# Altium footprint library Speaker Library.PcbLib: 45 footprints (part 2 of 3)
Each footprint in its own frame and in the unit in brackets; x right, y up, seen from the top. Pads: shape width x height; smd on the part's side, far side on the other; paste and mask are expansions set on the pad; w line width, h text height; cw(c..) or ccw(c..) is an arc to the next point about the centre after c.
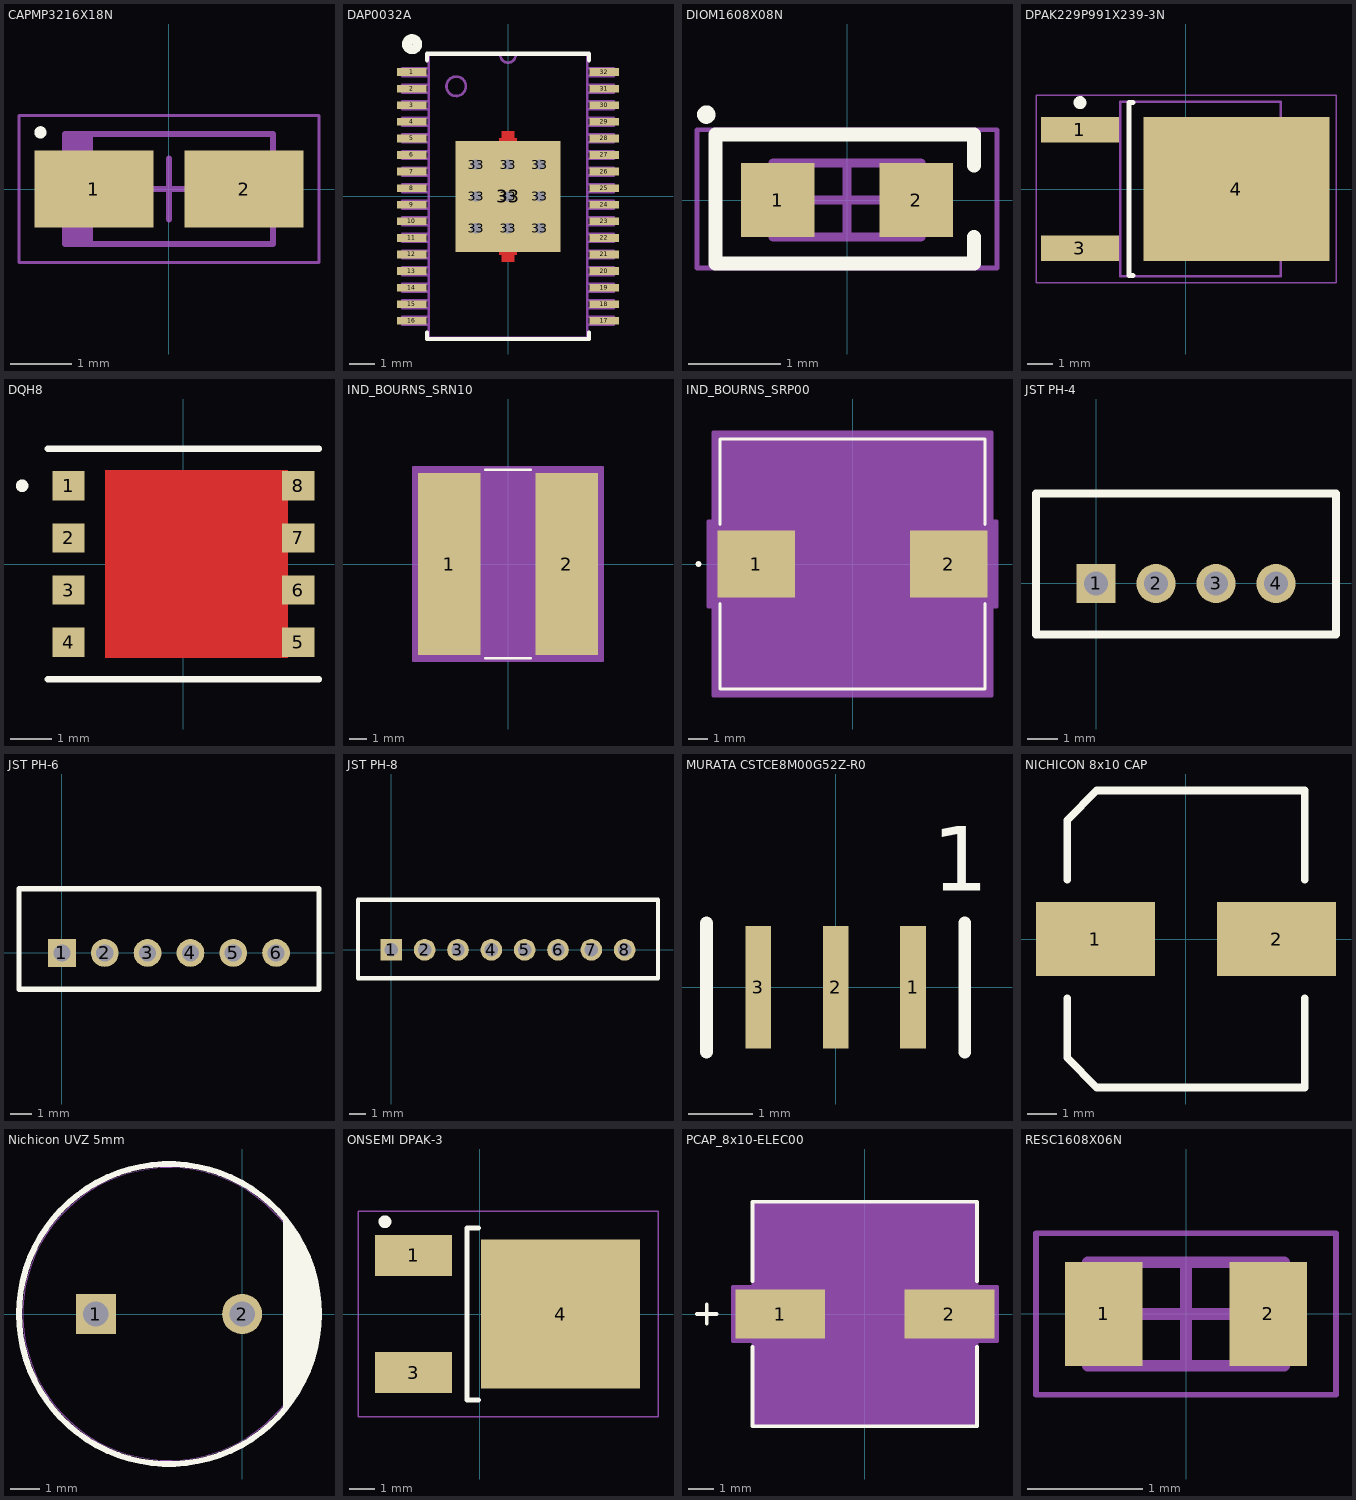
[diagram p1: the footprints below, top view; thin cyan lines are the x and y axes]

## CAPMP3216X18N [mm] "Molded Capacitor, 2-Leads, Body 3.20x1.60mm, IPC Medium Density"
height 1.8
pads (2):
  rect 1.95x1.25 smd: 1(-1.225,0) 2(1.225,0)
Top Overlay:
  circle w0.1: c-2.1,0.925 r0.05
Mechanical 13:
  rectangle: -1.7,-0.9 -1.243,0.9
  lines w0.1: -1.7,-0.9 1.7,-0.9 1.7,0.9 -1.7,0.9 -1.7,-0.9
Mechanical 15:
  lines w0.05: -2.45,-1.2 2.45,-1.2 2.45,1.2 -2.45,1.2 -2.45,-1.2
  lines w0.1: -0.5,0 0.5,0 ; 0,-0.5 0,0.5
3D body "CAPMP3216X18N.step": height 1.8, standoff 0, extent -1.92,-0.9 1.92,0.9

## DAP0032A [mil]
pads (42):
  rect 46x12 smd paste-4 mask+2: 1(-148.5,191.93) 2(-148.5,166.34) 3(-148.5,140.75) 4(-148.5,115.16) 5(-148.5,89.57) 6(-148.5,63.98) 7(-148.5,38.39) 8(-148.5,12.8) 9(-148.5,-12.8) 10(-148.5,-38.39) 11(-148.5,-63.98) 12(-148.5,-89.57) 13(-148.5,-115.16) 14(-148.5,-140.75) 15(-148.5,-166.34) 16(-148.5,-191.93) 17(148.5,-191.93) 18(148.5,-166.34) 19(148.5,-140.75) 20(148.5,-115.16) 21(148.5,-89.57) 22(148.5,-63.98) 23(148.5,-38.39) 24(148.5,-12.8) 25(148.5,12.8) 26(148.5,38.39) 27(148.5,63.98) 28(148.5,89.57) 29(148.5,115.16) 30(148.5,140.75) 31(148.5,166.34) 32(148.5,191.93)
  round 31.5 hole 15.75: 33(-49.21,-49.21) 33(-49.21,0) 33(-49.21,49.21) 33(0,-49.21) 33(0,0) 33(0,49.21) 33(49.21,-49.21) 33(49.21,0) 33(49.21,49.21)
  rect 161.81x171.65 smd paste-4 mask+2: 33(0,0)
Top Layer:
  region: 13.78,89.76 13.78,85.83 -13.78,85.83 -13.78,89.76 -9.84,89.76 -9.84,100.39 9.84,100.39 9.84,89.76
  region: 13.78,-89.76 13.78,-85.83 -13.78,-85.83 -13.78,-89.76 -9.84,-89.76 -9.84,-100.39 9.84,-100.39 9.84,-89.76
Top Overlay:
  circle w15: c-148,235 r8
  lines w6.69: -125,-210 -125,-220 125,-220 125,-210 ; -125,210 -125,220 125,220 125,210
Mechanical 1:
  circle w4: c-80,170 r15
  lines w4: -12,218.5 ccw(c0,218.5) 12,218.5 ; -163.5,-197.93 -163.5,-185.93 -122,-185.93 -122,-197.93 -163.5,-197.93 ; -163.5,-172.34 -163.5,-160.34 -122,-160.34 -122,-172.34 -163.5,-172.34 ; -163.5,-146.75 -163.5,-134.75 -122,-134.75 -122,-146.75 -163.5,-146.75 ; -163.5,-121.16 -163.5,-109.16 -122,-109.16 -122,-121.16 -163.5,-121.16 ; -163.5,-95.57 -163.5,-83.57 -122,-83.57 -122,-95.57 -163.5,-95.57 ; -163.5,-69.98 -163.5,-57.98 -122,-57.98 -122,-69.98 -163.5,-69.98 ; -163.5,-44.39 -163.5,-32.39 -122,-32.39 -122,-44.39 -163.5,-44.39 ; -163.5,-18.8 -163.5,-6.8 -122,-6.8 -122,-18.8 -163.5,-18.8 ; -163.5,6.8 -163.5,18.8 -122,18.8 -122,6.8 -163.5,6.8 ; -163.5,32.39 -163.5,44.39 -122,44.39 -122,32.39 -163.5,32.39 ; -163.5,57.98 -163.5,69.98 -122,69.98 -122,57.98 -163.5,57.98 ; -163.5,83.57 -163.5,95.57 -122,95.57 -122,83.57 -163.5,83.57 ; -163.5,109.16 -163.5,121.16 -122,121.16 -122,109.16 -163.5,109.16 ; -163.5,134.75 -163.5,146.75 -122,146.75 -122,134.75 -163.5,134.75 ; -163.5,160.34 -163.5,172.34 -122,172.34 -122,160.34 -163.5,160.34 ; -163.5,185.93 -163.5,197.93 -122,197.93 -122,185.93 -163.5,185.93 ; -122,-218.5 -122,218.5 122,218.5 122,-218.5 -122,-218.5 ; 122,-197.93 122,-185.93 163.5,-185.93 163.5,-197.93 122,-197.93 ; 122,-172.34 122,-160.34 163.5,-160.34 163.5,-172.34 122,-172.34 ; 122,-146.75 122,-134.75 163.5,-134.75 163.5,-146.75 122,-146.75 ; 122,-121.16 122,-109.16 163.5,-109.16 163.5,-121.16 122,-121.16 ; 122,-95.57 122,-83.57 163.5,-83.57 163.5,-95.57 122,-95.57 ; 122,-69.98 122,-57.98 163.5,-57.98 163.5,-69.98 122,-69.98 ; 122,-44.39 122,-32.39 163.5,-32.39 163.5,-44.39 122,-44.39 ; 122,-18.8 122,-6.8 163.5,-6.8 163.5,-18.8 122,-18.8 ; 122,6.8 122,18.8 163.5,18.8 163.5,6.8 122,6.8 ; 122,32.39 122,44.39 163.5,44.39 163.5,32.39 122,32.39 ; 122,57.98 122,69.98 163.5,69.98 163.5,57.98 122,57.98 ; 122,83.57 122,95.57 163.5,95.57 163.5,83.57 122,83.57 ; 122,109.16 122,121.16 163.5,121.16 163.5,109.16 122,109.16 ; 122,134.75 122,146.75 163.5,146.75 163.5,134.75 122,134.75 ; 122,160.34 122,172.34 163.5,172.34 163.5,160.34 122,160.34 ; 122,185.93 122,197.93 163.5,197.93 163.5,185.93 122,185.93
3D body "DAP0032A.stp": height 43.31, standoff 0, extent -159.85,-216.53 159.87,216.54

## DIOM1608X08N [mm] "Molded Diode, 2-Leads, Body 1.60x0.80mm, IPC Medium Density"
height 0.8
pads (2):
  rect 0.8x0.8 smd: 1(-0.75,0) 2(0.75,0)
Top Overlay:
  circle w0.1: c-1.525,0.925 r0.05
  lines w0.152: 1.375,-0.4 1.375,-0.686 -1.422,-0.686 -1.422,0.711 1.375,0.711 1.375,0.375
Mechanical 13:
  rectangle: 0.585,-0.4 0.8,0.4
  lines w0.1: -0.8,-0.4 0.8,-0.4 0.8,0.4 -0.8,0.4 -0.8,-0.4
Mechanical 15:
  lines w0.05: -1.625,-0.737 1.625,-0.737 1.625,0.762 -1.625,0.762 -1.625,-0.737
  lines w0.1: -0.4,0 0.4,0 ; 0,-0.4 0,0.4
3D body: height 0.3, standoff 0, extent -0.8,-0.4 0.8,0.4
3D body: height 0.8, standoff 0.3, extent -0.508,-0.305 0.508,0.305

## DPAK229P991X239-3N [mm] "D-PAK, 3-Pads, Body 6.21x6.73mm (max), IPC Medium Density"
height 2.39
pads (3):
  rect 3x1 smd: 1(-4.1,2.29) 3(-4.1,-2.29)
  rect 7.2x5.55 smd: 4(1.95,0)
Top Overlay:
  circle w0.25: c-4.1,3.34 r0.125
  lines w0.2: -2.05,-3.35 -2.2,-3.35 -2.2,3.35 -2.05,3.35
Mechanical 13:
  lines w0.1: -2.55,-3.375 -2.55,3.375 3.67,3.375 3.67,-3.375 -2.55,-3.375
Mechanical 15:
  lines w0.05: -5.8,-3.625 -5.8,3.625 5.8,3.625 5.8,-3.625 -5.8,-3.625
  lines w0.1: -0.5,0 0.5,0 ; 0,-0.5 0,0.5
3D body "DPAK229P991X239-3N.step": height 2.52, standoff 0, extent -4.6,-3.375 5.305,3.375

## DQH8 [mil]
pads (8):
  rect 31x28 smd paste-14: 1(-110,75) 2(-110,25) 3(-110,-25) 4(-110,-75) 5(110,-75) 6(110,-25) 7(110,25) 8(110,75)
Top Layer:
  region: -75,90 -75,75 -75,-75 -75,-90 100,-90 100,90
Top Overlay:
  circle w6: c-154.5,75 r3
  lines w6: -130,-110.5 130,-110.5 ; -130,110.5 130,110.5
Top Paste:
  region: 15,35 15,85 90,85 90,35
  region: 15,-25 15,25 90,25 90,-25
  region: -70,-25 -70,25 5,25 5,-25
  region: -70,35 -70,85 5,85 5,35
  region: 15,-85 15,-35 90,-35 90,-85
  region: -70,-85 -70,-35 5,-35 5,-85
  region: 125.47,88.97 94.53,88.97 94.53,61.02 125.47,61.02
  region: 125.47,38.98 94.53,38.98 94.53,11.03 125.47,11.03
  region: 125.47,-11.03 94.53,-11.03 94.53,-38.98 125.47,-38.98
  region: 125.47,-61.02 94.53,-61.02 94.53,-88.97 125.47,-88.97
  region: -94.53,-61.02 -125.47,-61.02 -125.47,-88.97 -94.53,-88.97
  region: -94.53,-11.03 -125.47,-11.03 -125.47,-38.98 -94.53,-38.98
  region: -94.53,38.98 -125.47,38.98 -125.47,11.03 -94.53,11.03
  region: -94.53,88.97 -125.47,88.97 -125.47,61.02 -94.53,61.02
Top Solder:
  region: 102,-92 102,53 102,92 -77,92 -77,-92
  region: 125.57,89.07 94.43,89.07 94.43,60.93 125.57,60.93
  region: 125.57,39.07 94.43,39.07 94.43,10.93 125.57,10.93
  region: 125.57,-10.93 94.43,-10.93 94.43,-39.07 125.57,-39.07
  region: 125.57,-60.93 94.43,-60.93 94.43,-89.07 125.57,-89.07
  region: -94.43,-60.93 -125.57,-60.93 -125.57,-89.07 -94.43,-89.07
  region: -94.43,-10.93 -125.57,-10.93 -125.57,-39.07 -94.43,-39.07
  region: -94.43,39.07 -125.57,39.07 -125.57,10.93 -94.43,10.93
  region: -94.43,89.07 -125.57,89.07 -125.57,60.93 -94.43,60.93

## IND_BOURNS_SRN10 [mil]
pads (2):
  rect 138x402 smd: 1(-130,0) 2(130,0)
Top Overlay:
  lines w6: -49.93,-208 49.93,-208 ; -49.93,208 49.93,208
Mechanical 13:
  circle w0: c-196,0 r3
Mechanical 15:
  region: -209,-211 -209,211 -209,213 209,213 209,211 209,-211 209,-213 -209,-213
  lines w6: -209,-213 -209,-211 -209,211 -209,213 209,213 209,211 209,-211 209,-213 -209,-213
3D body "IND_BOURNS_SRN1060.stp": height 236, standoff 0, extent -199,-203.01 199,203.01

## IND_BOURNS_SRP00 [mil]
pads (2):
  rect 160x138 smd: 1(-199.5,0) 2(199.5,0)
Top Overlay:
  circle w6: c-319.5,0 r3
  lines w6: -274.5,-82.1 -274.5,-259 274.5,-259 274.5,-82.1 ; -274.5,82.1 -274.5,259 274.5,259 274.5,82.1
Mechanical 13:
  circle w0: c-249.5,0 r3
Mechanical 15:
  region: -289.5,-89 -299.5,-89 -299.5,89 -289.5,89 -289.5,274 289.5,274 289.5,89 299.5,89 299.5,-89 289.5,-89 289.5,-274 -289.5,-274
  lines w6: -299.5,-89 -289.5,-89 -289.5,-274 289.5,-274 289.5,-89 299.5,-89 299.5,89 289.5,89 289.5,274 -289.5,274 -289.5,89 -299.5,89 -299.5,-89
3D body "IND_BOURNS_SRP1270.stp": height 276.11, standoff 0, extent -269.49,-253.99 269.51,254.01

## JST PH-4 [mm]
pads (4):
  rect 1.3x1.3 hole 0.8: 1(0,0)
  round 1.3 hole 0.8: 2(2,0) 3(4,0) 4(6,0)
Top Overlay:
  lines w0.254: -2,-1.7 -2,3 8,3 8,-1.7 -2,-1.7
3D body "B4B-PH-K-S.STEP": height 6, standoff -3.4, extent -1.95,-1.625 7.95,2.875

## JST PH-6 [mm]
pads (6):
  rect 1.3x1.3 hole 0.8: 1(0,0)
  round 1.3 hole 0.8: 2(2,0) 3(4,0) 4(6,0) 5(8,0) 6(10,0)
Top Overlay:
  lines w0.254: -2,-1.7 12,-1.7 12,3 -2,3 -2,-1.7
3D body "B6B-PH-K-S.STEP": height 6, standoff -3.4, extent -1.95,-1.65 11.95,2.85

## JST PH-8 [mm]
pads (8):
  rect 1.3x1.3 hole 0.8: 1(0,0)
  round 1.3 hole 0.8: 2(2,0) 3(4,0) 4(6,0) 5(8,0) 6(10,0) 7(12,0) 8(14,0)
Top Overlay:
  lines w0.254: -2,-1.7 16,-1.7 16,3 -2,3 -2,-1.7
3D body "B8B-PH-K-S.STEP": height 6, standoff -3.4, extent -1.95,-1.6 15.95,2.9

## MURATA CSTCE8M00G52Z-R0 [mm]
pads (3):
  rect 0.4x1.9 smd: 1(1.2,0) 2(0,0) 3(-1.2,0)
Top Overlay:
  lines w0.2: -2,-1 -2,1 ; 2,-1 2,1
  text "1" at 1.5,1.5 h1

## NICHICON 8x10 CAP [mm]
pads (2):
  rect 4x2.5 smd: 1(-3.05,0) 2(3.05,0)
Top Overlay:
  lines w0.254: -4,-2 -4,-4 -3,-5 4,-5 4,-2 ; -4,2 -4,4 -3,5 4,5 4,2

## Nichicon UVZ 5mm [mil]
height 787.4
pads (2):
  rect 54x54 / inner round 60 / far side rect 54x54 hole 34: 1(-197,0)
  round 54 / inner round 60 / far side round 54 hole 34: 2(0,0)
Top Overlay:
  circle w7.87: c-98.5,0 r202
  region: 55.12,135.17 55.12,-129.13 82.68,-90.55 94.49,-55.12 103.5,0 94.49,55.12 74.8,102.36
Mechanical 13:
  circle w0: c-98.5,0 r197
3D body "U1-T.stp": height 778.01, standoff -172, extent -295.5,-197 99.51,197

## ONSEMI DPAK-3 [mm]
pads (3):
  rect 3x1.6 smd: 1(-2.58,2.285) 3(-2.58,-2.285)
  rect 6.2x5.8 smd: 4(3.15,0)
Top Overlay:
  circle w0.25: c-3.7,3.6 r0.125
  lines w0.2: -0.05,-3.35 -0.5,-3.35 -0.5,3.35 -0.05,3.35
Mechanical 15:
  lines w0.05: -4.75,-4 -4.75,4 6.95,4 6.95,-4 -4.75,-4
  lines w0.1: 0.6,0 1.6,0 ; 1.1,-0.5 1.1,0.5

## PCAP_8x10-ELEC00 [mil]
pads (2):
  rect 138x75 smd: 1(-130,0) 2(130,0)
Top Overlay:
  lines w6: -258,0 -228,0 ; -243,-15 -243,15 ; -172.5,-50.6 -172.5,-172.5 172.5,-172.5 172.5,-50.6 ; -172.5,50.6 -172.5,172.5 172.5,172.5 172.5,50.6
Mechanical 15:
  region: -171.5,-41.5 -203,-41.5 -203,41.5 -171.5,41.5 -171.5,171.5 171.5,171.5 171.5,41.5 203,41.5 203,-41.5 171.5,-41.5 171.5,-171.5 -171.5,-171.5
  lines w6: -203,-41.5 -171.5,-41.5 -171.5,-171.5 171.5,-171.5 171.5,-41.5 203,-41.5 203,41.5 171.5,41.5 171.5,171.5 -171.5,171.5 -171.5,41.5 -203,41.5 -203,-41.5
3D body "PCAP_8x10-ELECT.stp": height 407, standoff 0, extent -183,-167.5 183,167.5

## RESC1608X06N [mm] "Chip Resistor, 2-Leads, Body 1.60x0.80mm, IPC Medium Density"
height 0.55
pads (2):
  rect 0.67x0.9 smd: 1(-0.713,0) 2(0.713,0)
Mechanical 13:
  lines w0.1: -0.85,-0.45 0.85,-0.45 0.85,0.45 -0.85,0.45 -0.85,-0.45
Mechanical 15:
  lines w0.05: -1.3,-0.7 1.3,-0.7 1.3,0.7 -1.3,0.7 -1.3,-0.7
  lines w0.1: -0.45,0 0.45,0 ; 0,-0.45 0,0.45
3D body: height 0.55, standoff 0, extent 0.6,-0.45 0.85,0.45
3D body: height 0.55, standoff 0, extent -0.85,-0.45 -0.6,0.45
3D body: height 0.55, standoff 0, extent -0.6,-0.45 0.6,0.45